# Altium schematic symbol library TV.SchLib: 5 symbols
Pins are listed as number, name and electrical type; pins without a type are passive.

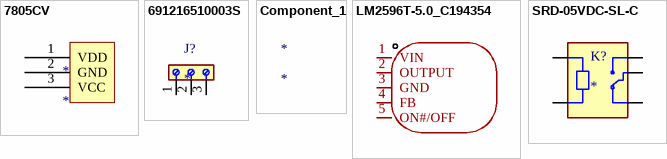
[diagram p0: symbols 7805CV to SRD-05VDC-SL-C]

## 7805CV
designator *
footprint TO-220-3
pins: 1 VDD, 2 GND, 3 VCC

## 691216510003S
designator J?
5.08 MM TERMINAL BLOCK;; MF: WÃ¼rth Elektronik; MP: 691216510003S; SnapEDA_Link: https://www.snapeda.com/parts/691216510003S/W%25C3%25BCrth+Elektronik+Midcom/view-part/?ref=snap; Package: None; Value: *; Check_prices: https://www.snapeda.com/parts/691216510003S/W%25C3%25BCrth+Elektronik+Midcom/view-part/?ref=eda
footprint 691216510003S
pins: 1, 2, 3

## Component_1
designator *

## LM2596T-5.0_C194354
designator U?, comment LM2596T-5.0  (value not drawn)
Manufacturer: HGSEMI(华冠); Symbol: LM2596T-5.0_C194354; Add into BOM: yes; Function: Step-down type; Output Type: Fixed; Voltage - Supply: 40V; Output Voltage: 5V; Output Current: 3A; Frequency - Switching: 150kHz; Synchronous Rectifier: No; Number of Outputs: 1; Topology: Step-down; Quiescent Current: 5mA; Switch tube (built-in/external): Built-in; Device: LM2596T-5.0_C194354; LCSC Part Name: LM2596T-5.0; Supplier Part: C194354; Manufacturer Part: LM2596T-5.0; Supplier Footprint: TO-220-5; JLCPCB Part Class: Extended Part; Datasheet: https://atta.szlcsc.com/upload/public/pdf/source/20200924/C194349_32A49216D05BD4A6AA6EE8DE19C810A9.pdf; Supplier: LCSC; Convert to PCB: yes; Operating Temperature: -40℃~+125℃@(TJ)
footprint TO-220-5L_L10.2-W4.5-P1.71-L
3D model TO-220-5_L10.2-W4.5-H14.9-P1.85
pins: 1 VIN, 2 OUTPUT, 3 GND, 4 FB, 5 ON#/OFF

## SRD-05VDC-SL-C
designator K?
5V Trigger Relay Module For Arduino And Raspberry Pi 5V Trigger Relay Module For Arduino And Raspberry Pi; MF: Songle Relay; MP: SRD-05VDC-SL-C; Check_prices: https://www.snapeda.com/parts/SRD-05VDC-SL-C/Songle+Relay/view-part/?ref=eda; Value: *; Availability: Not in stock; Price: None; Package: NON STANDARD-5 Songle Relay; SnapEDA_Link: https://www.snapeda.com/parts/SRD-05VDC-SL-C/Songle+Relay/view-part/?ref=snap
footprint RELAY_SRD-05VDC-SL-C
pins: A1, A2, COM, NC, NO